# EAGLE library part MOTORSCHUTZSCHALTER_3-POL_THERM_MAG_HANDBETAETIGT (library e-motorschutzschalter)
Motorschutzschalter 3-pol. mit thermischer Auslösung, Handbetätigt
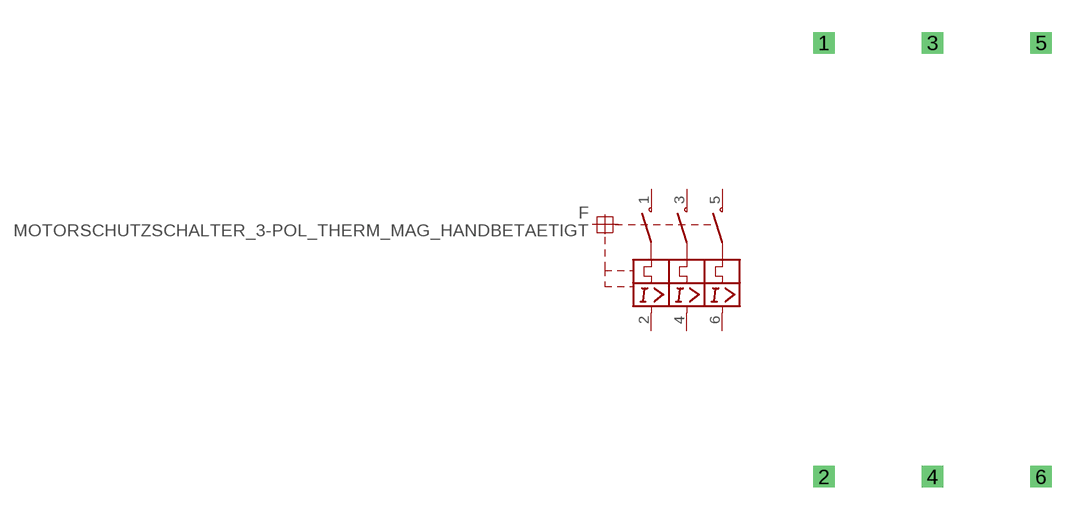
[diagram p7: symbol with the pads of MOTORSCHUTZSCHALTER_3-POL_THERM_MAG_HANDBETAETIGT; footprint MOTORSCHUTZSCHALTER_3-POL_THERM_MAG_HANDBETAETIGT]

Designator prefix F

## MOTORSCHUTZSCHALTER_3-POL_THERM_MAG_HANDBETAETIGT  [MOTORSCHUTZSCHALTER_3-POL_THERM_MAG_HANDBETAETIGT]
1  1  pas
2  2  pas
3  3  pas
4  4  pas
5  5  pas
6  6  pas

## Footprint MOTORSCHUTZSCHALTER_3-POL_THERM_MAG_HANDBETAETIGT (pad centres in mm)
Dummy
drill 0.5 pad 1 square: 1 -5.08,0; 2 -5.08,-20.32; 3 0,0; 4 0,-20.32; 5 5.08,0; 6 5.08,-20.32